# EAGLE library part ZX62-B-5PA(33) (library ZX62-B-5PA_33_)
ZX Series 5 Position Right Angle PCB Wire Micro B USB Plug Check prices <https://snapeda.com/parts/ZX62-B-5PA%2833%29/Hirose/view-part/?ref=eda>
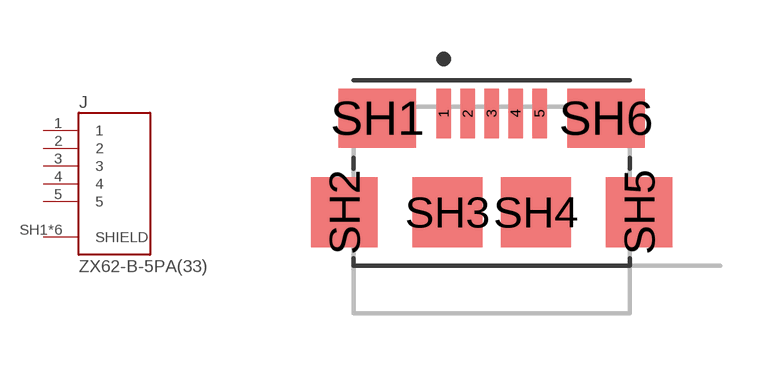
[diagram p0: symbol with the pads of HRS_ZX62-B-5PA(33); footprint HRS_ZX62-B-5PA(33)]

Designator prefix J

## ZX62-B-5PA(33) (Arrow_Electronics-Purchase-URL: https://snapeda.com/shop?store=Arrow+Electronics&id=524781; Availability: Good; Description: USB - micro B USB 2.0 Receptacle Connector 5 Position Surface Mount, Right Angle; DigiKey-Purchase-URL: https://snapeda.com/shop?store=DigiKey&id=524781; MF: Hirose; MP: ZX62-B-5PA(33); Mouser-Purchase-URL: https://snapeda.com/shop?store=Mouser&id=524781; Package: None; Price: None)  [HRS_ZX62-B-5PA(33)]
1  1  pas
2  2  pas
3  3  pas
4  4  pas
5  5  pas
SH1  SHIELD  pas
SH2  SHIELD  pas
SH3  SHIELD  pas
SH4  SHIELD  pas
SH5  SHIELD  pas
SH6  SHIELD  pas

## Footprint HRS_ZX62-B-5PA(33) (pad centres in mm)
smd 0.4 x 1.35: 1 -1.3,2.675; 2 -0.65,2.675; 3 0,2.675; 4 0.65,2.675; 5 1.3,2.675
smd 2.1 x 1.6: SH1 -3.1,2.55; SH6 3.1,2.55
smd 1.8 x 1.9: SH2 -4,0; SH5 4,0
smd 1.9 x 1.9: SH3 -1.2,0; SH4 1.2,0